# Altium schematic symbol library Capacitors.SchLib: 13 symbols
Pins are listed as number, name and electrical type; pins without a type are passive.

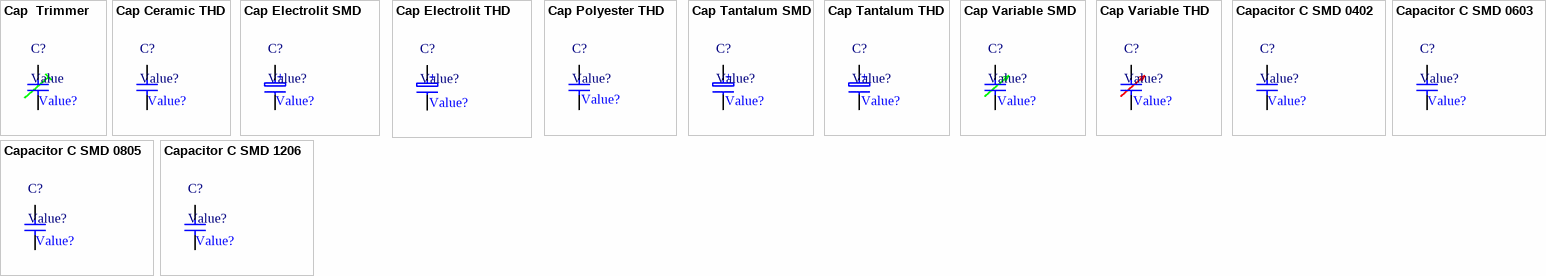
[diagram p0: symbols Cap  Trimmer to Capacitor C SMD 1206]

## Cap  Trimmer
designator C?, comment Value  value Value?
Cap Trimmer
pins: 1, 2

## Cap Ceramic THD
designator C?, comment Value?
Bipolar Capacitor Ceramic THD; Value: Value?
pins: 1, 2

## Cap Electrolit SMD
designator C?, comment Value?
Electrolit Capacitor SMD; Value: Value?
pins: 1 +, 2 -

## Cap Electrolit THD
designator C?, comment Value?
Electrolit Capacitor THD; Value: Value?
pins: 1 +, 2 -

## Cap Polyester THD
designator C?, comment Value?
Capacitor Polyester THD; Value: Value?
pins: 1, 2

## Cap Tantalum SMD
designator C?, comment Value?
Cap Tantalum SMD; Value: Value?
pins: 1 +, 2 -

## Cap Tantalum THD
designator C?, comment Value?
Cap Tantalum THD; Value: Value?
pins: 1 +, 2 -

## Cap Variable SMD
designator C?, comment Value?
Variable Capacitor SMD; Value: Value?
pins: 1, 2

## Cap Variable THD
designator C?, comment Value?
Variable Capacitor THD; Value: Value?
pins: 1, 2

## Capacitor C SMD 0402
designator C?, comment Value?
Bipolar Capacitor Ceramic SMD 0402; Value: Value?
footprint C0402
pins: 1, 2

## Capacitor C SMD 0603
designator C?, comment Value?
Bipolar Capacitor Ceramic SMD 0603; Value: Value?
footprint C0603
pins: 1, 2

## Capacitor C SMD 0805
designator C?, comment Value?
Bipolar Capacitor Ceramic SMD 0805; Value: Value?
footprint C0805
pins: 1, 2

## Capacitor C SMD 1206
designator C?, comment Value?
Bipolar Capacitor Ceramic SMD 1206; Value: Value?
footprint C1206
pins: 1, 2